# EAGLE library part MIXER (library AP_MIXERNEW)
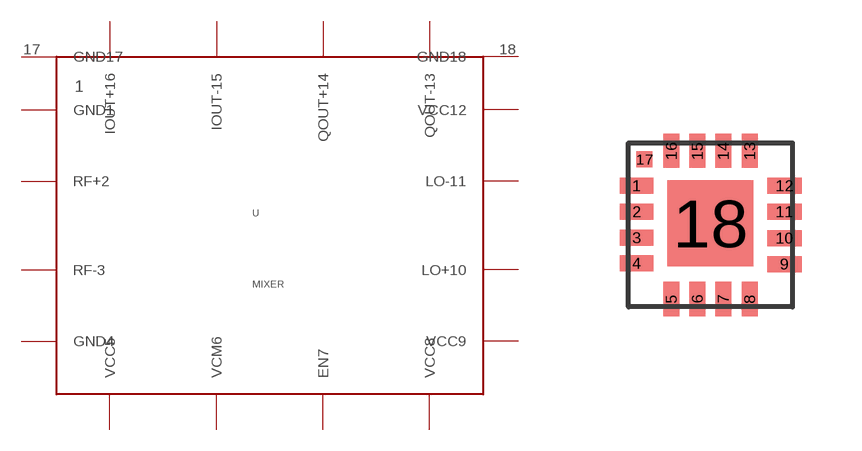
[diagram p0: symbol with the pads of MIXER_NEWNEW; footprint MIXER_NEWNEW]

Designator prefix -

## MIXERMXER  [MIXER_NEWNEW]
1  GND1
2  RF+2
3  RF-3
4  GND4
5  VCC5
6  VCM6
7  EN7
8  VCC8
9  VCC9
10  LO+10
11  LO-11
12  VCC12
13  QOUT-13
14  QOUT+14
15  IOUT-15
16  IOUT+16
17  GND17
18  GND18

## Footprint MIXER_NEWNEW (pad centres in mm)
smd 0.85 x 0.4: 1 -1.799,1.64; 2 -1.799,0.99; 3 -1.799,0.34; 4 -1.799,-0.3; 9 1.901,-0.32; 10 1.901,0.33; 11 1.901,0.99; 12 1.901,1.64
smd 0.4 x 0.85: 5 -0.929,-1.19; 6 -0.279,-1.19; 7 0.371,-1.19; 8 1.031,-1.19; 13 1.031,2.51; 14 0.371,2.51; 15 -0.279,2.51; 16 -0.929,2.51
smd 0.4 x 0.4: 17 -1.6,2.3
smd 2.15 x 2.15: 18 0.05,0.7